# EAGLE library part ATTINY24 (library Atmel)
ATtiny24-44-84 AVR Microcontroller
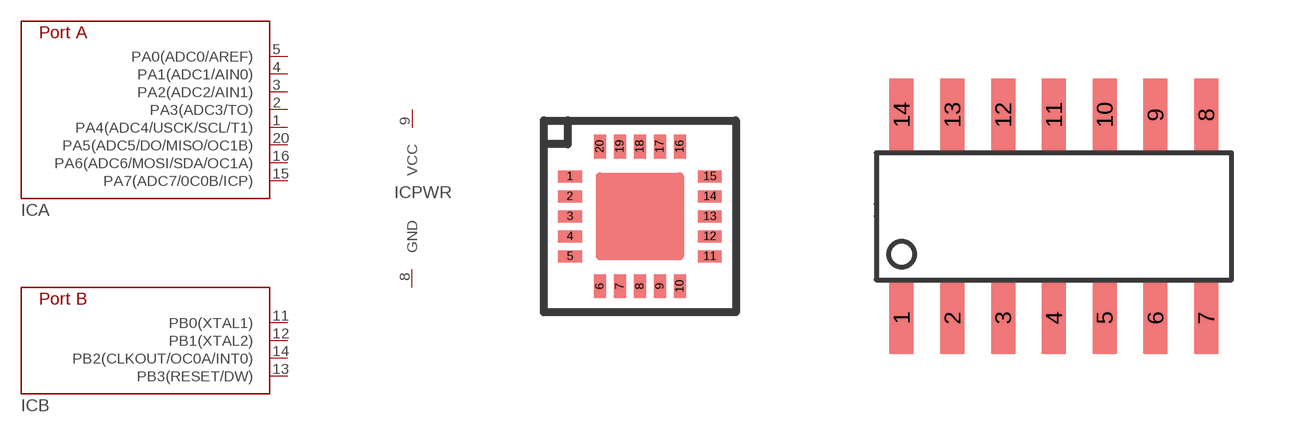
[diagram p0: symbol with the pads of MLF20; footprints MLF20, SOIC14]

Designator prefix IC; gates A=ATTINY24-A B=ATTINY24-B PWR=ATTINY24-PWR

## ATTINY24-MU  [MLF20]
1  A:PA4(ADC4/USCK/SCL/T1)
2  A:PA3(ADC3/TO)
3  A:PA2(ADC2/AIN1)
4  A:PA1(ADC1/AIN0)
5  A:PA0(ADC0/AREF)
8  PWR:GND
9  PWR:VCC
11  B:PB0(XTAL1)
12  B:PB1(XTAL2)
13  B:PB3(RESET/DW)
14  B:PB2(CLKOUT/OC0A/INT0)
15  A:PA7(ADC7/0C0B/ICP)
16  A:PA6(ADC6/MOSI/SDA/OC1A)
20  A:PA5(ADC5/DO/MISO/OC1B)

## ATTINY24-SSU  [SOIC14]
1  PWR:VCC
2  B:PB0(XTAL1)
3  B:PB1(XTAL2)
4  B:PB3(RESET/DW)
5  B:PB2(CLKOUT/OC0A/INT0)
6  A:PA7(ADC7/0C0B/ICP)
7  A:PA6(ADC6/MOSI/SDA/OC1A)
8  A:PA5(ADC5/DO/MISO/OC1B)
9  A:PA4(ADC4/USCK/SCL/T1)
10  A:PA3(ADC3/TO)
11  A:PA2(ADC2/AIN1)
12  A:PA1(ADC1/AIN0)
13  A:PA0(ADC0/AREF)
14  PWR:GND

## ATTINY24-PU  [DIP14C]
Pads as for SOIC14

## Footprint MLF20 (pad centres in mm)
Atmel QFN/MLF-20, Atmel package code 20M1
smd 0.6 x 0.3: 1 -1.75,1; 2 -1.75,0.5; 3 -1.75,0; 4 -1.75,-0.5; 5 -1.75,-1; 11 1.75,-1; 12 1.75,-0.5; 13 1.75,0; 14 1.75,0.5; 15 1.75,1
smd 0.3 x 0.6: 6 -1,-1.75; 7 -0.5,-1.75; 8 0,-1.75; 9 0.5,-1.75; 10 1,-1.75; 16 1,1.75; 17 0.5,1.75; 18 0,1.75; 19 -0.5,1.75; 20 -1,1.75

## Footprint SOIC14 (pad centres in mm)
smd 0.6 x 1.8: 1 -3.81,-2.54; 2 -2.54,-2.54; 3 -1.27,-2.54; 4 0,-2.54; 5 1.27,-2.54; 6 2.54,-2.54; 7 3.81,-2.54; 8 3.81,2.54; 9 2.54,2.54; 10 1.27,2.54; 11 0,2.54; 12 -1.27,2.54; 13 -2.54,2.54; 14 -3.81,2.54

## Footprint DIP14C (pad centres in mm)
drill 0.889 square: 1 -3.81,7.62
drill 0.889 round: 2 -3.81,5.08; 3 -3.81,2.54; 4 -3.81,0; 5 -3.81,-2.54; 6 -3.81,-5.08; 7 -3.81,-7.62; 8 3.81,-7.62; 9 3.81,-5.08; 10 3.81,-2.54; 11 3.81,0; 12 3.81,2.54; 13 3.81,5.08; 14 3.81,7.62